# Altium schematic symbol library Switch#csv.SchLib: 4 symbols
Pins are listed as number, name and electrical type; pins without a type are passive.

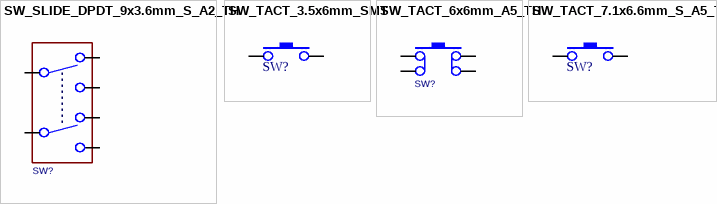
[diagram p0: symbols SW_SLIDE_DPDT_9x3.6mm_S_A2_TH to SW_TACT_7.1x6.6mm_S_A5_TH]

## SW_SLIDE_DPDT_9x3.6mm_S_A2_TH
designator SW?, comment SWITCH-SLIDE-DPDT-LNK  (value not drawn)
SW SLIDE DPDT 6VDC 0.3A PCMNT; Manufacturer: C&K Components; Manufacturer Part Number: JS202011AQN; Name: SW_SLIDE_DPDT_9x3.6mm_S_A2_TH; Drawn By: Juan I Carrano; Value: 0.3A; Supplier 1: Digi-Key; Supplier Part Number 1: 401-2000-ND
footprint X-CKC_JS202011AQN
pins: A1, A2, B1, B2, C1, C2

## SW_TACT_3.5x6mm_SMT
designator SW?, comment SWITCH_TACTILE_SPST-2T-NO  (value not drawn)
SWITCH TACTILE SPST-NO 0.05A 12V; Manufacturer: TE Connectivity; Manufacturer Part Number: FSMSM; Name: SW_TACT_3.5x6mm_SMT; Supplier 1: Digi-Key; Supplier Part Number 1: 450-1140-ND
footprint X-TECO_FSMSM
pins: 1, 2

## SW_TACT_6x6mm_A5_TH
designator SW?, comment SWITCH-TACTILE-SPST-NO  (value not drawn)
SWITCH TACTILE SPST-NO 0.05A 12V; Name: SW_TACT_6x6mm_A5_TH; Supplier 1: SyC; Supplier Part Number 1: TS-2
footprint G-SWITCH-M6x6A5-4T_TH
pins: 1, 2, 3, 4

## SW_TACT_7.1x6.6mm_S_A5_TH
designator SW?, comment SWITCH_TACTILE_SPST-2T-NO  (value not drawn)
SWITCH TACTILE SPST-NO 0.05A 12V; Manufacturer: TE Connectivity; Manufacturer Part Number: 1825027-8; Name: SW_TACT_7.1x6.6mm_S_A5_TH; Supplier 1: Digi-Key; Supplier Part Number 1: 450-1657-ND
footprint G-SWITCH-M7.1x6.6AS3.25-2T_TH
pins: 1, 2